# EAGLE library part 1775470-4 (library 1775470-4)
Connector Header Surface Mount 4 position 0.079" (2.00mm) Source: Datasheet <https://www.te.com/commerce/DocumentDelivery/DDEController?Action=showdoc&DocId=Customer Drawing1775470BpdfEnglishENG_CD_1775470_B.pdf1775470-4>
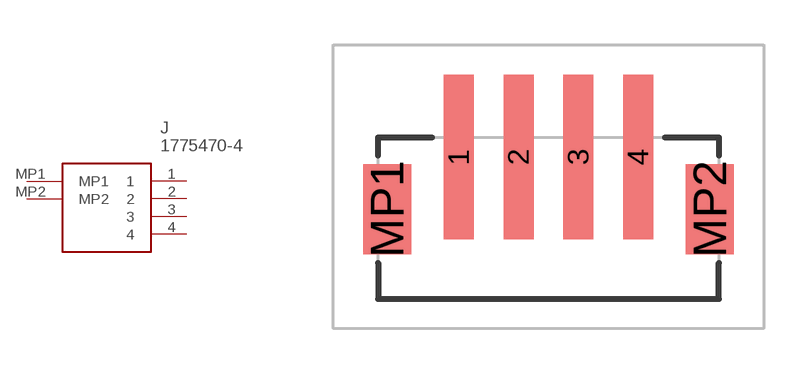
[diagram p0: symbol with the pads of 17754704; footprint 17754704]

Designator prefix J

## 1775470-4 (Description: Connector Header Surface Mount 4 position 0.079" (2.00mm); Height: 6.45mm; Manufacturer_Name: TE Connectivity; Manufacturer_Part_Number: 1775470-4)  [17754704]
1  1
2  2
3  3
4  4
MP1  MP1
MP2  MP2

## Footprint 17754704 (pad centres in mm)
1775470-4-5
smd 1 x 5.5: 1 -3,2.05; 2 -1,2.05; 3 1,2.05; 4 3,2.05
smd 1.6 x 3: MP1 -5.4,0.3; MP2 5.4,0.3